# Altium schematic symbol library Transistors.SchLib: 1 symbol
Pins are listed as number, name and electrical type; pins without a type are passive.

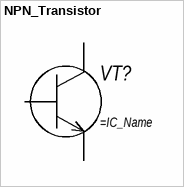
[diagram p0: symbol NPN_Transistor]

## NPN_Transistor
designator VT?
pins: 1 B "base", 2 E "emitter", 3 C "collector"